# EAGLE library part I-12644_OSL10326-IR (library Akizuki)
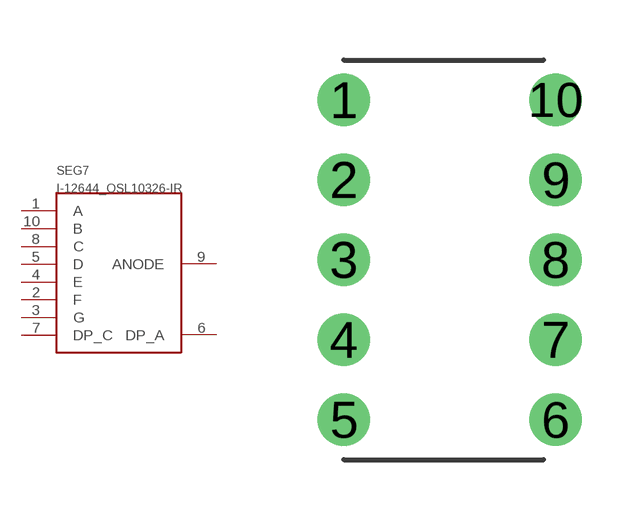
[diagram p38: symbol with the pads of NAR131S-B; footprint NAR131S-B]

Designator prefix SEG7

## I-12644_OSL10326-IR  [NAR131S-B]
1  A
2  F
3  G
4  E
5  D
6  DP_A
7  DP_C
8  C
9  ANODE
10  B

## Footprint NAR131S-B (pad centres in mm)
drill 0.8 pad 1.3: 1 -2.6,4.1; 2 -2.6,2.1; 3 -2.6,0.1; 4 -2.6,-1.9; 5 -2.6,-3.9; 6 2.7,-3.9; 7 2.7,-1.9; 8 2.7,0.1; 9 2.7,2.1; 10 2.7,4.1